# EAGLE library part PINHD-2X7 (library !con-pinhead)
PIN HEADER
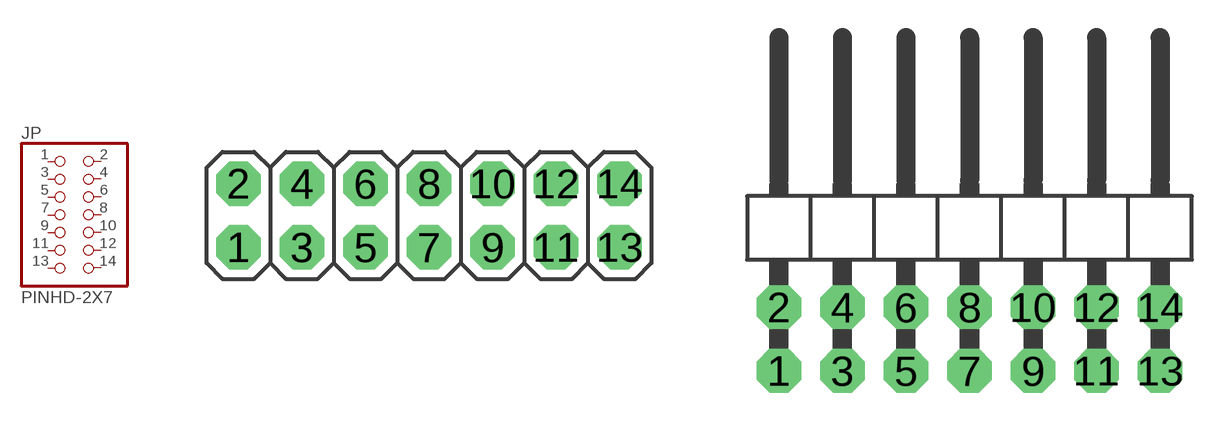
[diagram p12: symbol with the pads of 2X07; footprints 2X07, 2X07/90]

Designator prefix JP

## PINHD-2X7  [2X07]
1  1  pas
2  2  pas
3  3  pas
4  4  pas
5  5  pas
6  6  pas
7  7  pas
8  8  pas
9  9  pas
10  10  pas
11  11  pas
12  12  pas
13  13  pas
14  14  pas

## PINHD-2X7/90  [2X07/90]
Pads as for 2X07

## Footprint 2X07 (pad centres in mm)
PIN HEADER
drill 1.016 pad 1.778 octagon: 1 -7.62,-1.27; 2 -7.62,1.27; 3 -5.08,-1.27; 4 -5.08,1.27; 5 -2.54,-1.27; 6 -2.54,1.27; 7 0,-1.27; 8 0,1.27; 9 2.54,-1.27; 10 2.54,1.27; 11 5.08,-1.27; 12 5.08,1.27; 13 7.62,-1.27; 14 7.62,1.27

## Footprint 2X07/90 (pad centres in mm)
PIN HEADER
drill 1.016 pad 1.778 octagon: 1 -7.62,-6.35; 2 -7.62,-3.81; 3 -5.08,-6.35; 4 -5.08,-3.81; 5 -2.54,-6.35; 6 -2.54,-3.81; 7 0,-6.35; 8 0,-3.81; 9 2.54,-6.35; 10 2.54,-3.81; 11 5.08,-6.35; 12 5.08,-3.81; 13 7.62,-6.35; 14 7.62,-3.81